# Altium schematic symbol library BASE OXIMETRO.SCHLIB: 30 symbols
Pins are listed as number, name and electrical type; pins without a type are passive.

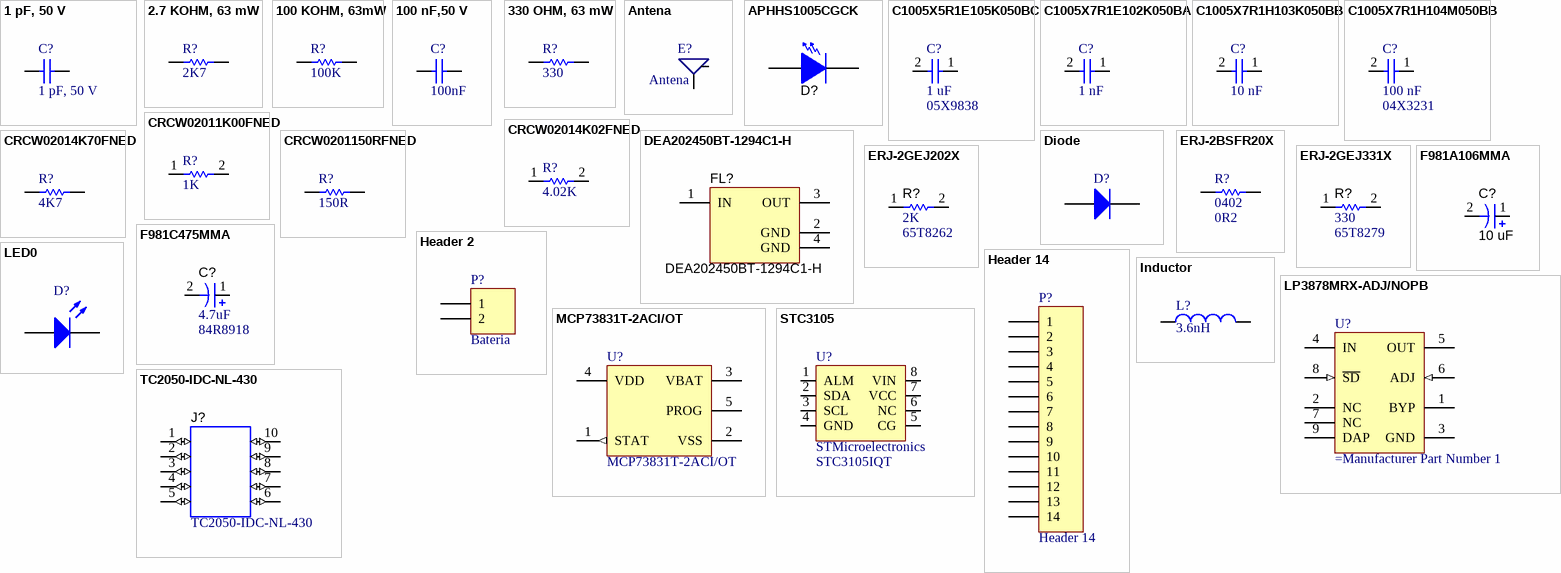
[diagram p0: symbols 1 pF, 50 V to TC2050-IDC-NL-430]

## 1 pF, 50 V
designator C?
TDK - C1005C0G1H010B050BA - CERAMIC CAPACITOR 1PF 50V, C0G/NP0, 0.1pF, 0402; Product Range: C Series; Capacitance: 1; Capacitance Tolerance: 0.1; Voltage Rating: 50; Ceramic Capacitor Case: 0402 [1005 Metric]; Supplier 1: Newark; Manufacturer 1: TDK; Manufacturer Part Number: C1005C0G1H010B050BA; RoHS: YES; Stock 1: 8365; Pricing 1: 1=0.131, 10=0.034, 100=0.016, 250=0.012, 500=0.011, 1000=0.008, 5000=0.007 (USD); Dielectric Characteristic: C0G / NP0; MSL: -; ComponentLink1URL: http://www.farnell.com/datasheets/1571323.pdf; ComponentLink1Description: http://www.farnell.com/datasheets/1571323.pdf; Supplier Part Number 1: 90R7555
footprint C0402
pins: 1, 2

## 2.7 KOHM, 63 mW
designator R?, comment 2K7
VISHAY DALE - CRCW04022K70FKED - THICK FILM RESISTOR, 2.7KOHM, 63mW, 1%; Supplier 1: Newark; Manufacturer 1: VISHAY DALE; Manufacturer Part Number: CRCW04022K70FKED; RoHS: YES; Stock 1: 1714; Pricing 1: 1=0.005, 10=0.005, 100=0.005, 1000=0.005 (USD); ComponentLink1URL: http://www.vishay.com/docs/31543/packsmre.pdf; ComponentLink1Description: http://www.vishay.com/docs/31543/packsmre.pdf; ComponentLink2URL: http://www.farnell.com/cad/1551525.zip; ComponentLink2Description: http://www.farnell.com/cad/1551525.zip; ComponentLink3URL: http://www.farnell.com/datasheets/1824995.pdf; ComponentLink3Description: http://www.farnell.com/datasheets/1824995.pdf; Supplier Part Number 1: 72M6760
footprint R-0402
pins: 1, 2

## 100 KOHM, 63mW
designator R?, comment 100K
VISHAY DALE - CRCW0402100KFKED - THICK FILM RESISTOR, 100KOHM, 63mW, 1%; Supplier 1: Newark; Manufacturer 1: VISHAY DALE; Manufacturer Part Number: CRCW0402100KFKED; RoHS: YESX; Stock 1: 8471; Pricing 1: 1=0.093, 10=0.02, 100=0.017, 1000=0.015 (USD); ComponentLink1URL: http://www.farnell.com/datasheets/1914725.pdf; ComponentLink1Description: http://www.farnell.com/datasheets/1914725.pdf; Supplier Part Number 1: 52K6607
footprint R-0402
pins: 1, 2

## 100 nF,50 V
designator C?  value 100nF  (hidden comment: 100 nF,50 V)
TDK - C1005X7R1H104K050BB - CERAMIC CAPACITOR, 0.1UF, 50V, X7R, 0402, FULL REEL; Product Range: C Series; Capacitance: 0.1 F; Capacitance Tolerance: 10%; Dielectric Characteristic: X7; Voltage Rating: 50; Ceramic Capacitor Case: 0402 [1005 Metric]; Supplier 1: Newark; Manufacturer: TDK; Manufacturer Part Number: C1005X7R1H104K050BB; RoHS: YES; Stock 1: 210000; Pricing 1: 10000=0.026, 20000=0.024, 30000=0.021, 50000=0.017 (USD); MSL: -; ComponentLink1URL: http://www.farnell.com/datasheets/1796654.pdf; ComponentLink1Description: http://www.farnell.com/datasheets/1796654.pdf; Supplier Part Number 1: 72W1753
footprint C-0402
pins: 1, 2

## 330 OHM, 63 mW
designator R?, comment 330
VISHAY DALE - CRCW0402330RFKED - THICK FILM RESISTOR, 330 OHM, 63mW, 1%; Product Range: AEC-Q200 CRCW Series; Power Rating: 63; Voltage Rating: 50; Resistor Case Style: 0402 [1005 Metric]; Supplier 1: Newark; Manufacturer 1: VISHAY DALE; Manufacturer Part Number: CRCW0402330RFKED; RoHS: YESX; Stock 1: 3159; Pricing 1: 1=0.005, 10=0.005, 100=0.005, 1000=0.005 (USD); Resistance: 330; Resistance Tolerance: 1%; Packaging: Cut Tape; ComponentLink1URL: http://www.vishay.com/docs/31543/packsmre.pdf; ComponentLink1Description: http://www.vishay.com/docs/31543/packsmre.pdf; ComponentLink2URL: http://www.farnell.com/cad/1551556.zip; ComponentLink2Description: http://www.farnell.com/cad/1551556.zip; ComponentLink3URL: http://www.farnell.com/datasheets/1824995.pdf; ComponentLink3Description: http://www.farnell.com/datasheets/1824995.pdf; Supplier Part Number 1: 52K6981
footprint R-0402
pins: 1, 2

## Antena
designator E?
footprint UFL
pins: 0 GND, 1

## APHHS1005CGCK
designator D?, comment 2290341  (value not drawn)
KINGBRIGHT - KPHHS-1005MGCK - LED, 0402, GREEN; Luminous Intensity: 60; Viewing Angle: 120°; Forward Current If: 20; Forward Voltage: 2.1; LED Mounting: SMD; Lens Shape: Rectangular; Wavelength Typ: 574; SVHC: No SVHC (16-Dec-2013; Supplier 1: Farnell; Supplier Part Number 1: 2290341; Manufacturer 1: KINGBRIGHT; Manufacturer Part Number 1: KPHHS-1005MGCK; RoHS 1: YES; Description 1: KINGBRIGHT - KPHHS-1005MGCK - LED, 0402, GREEN; Stock 1: 2970; Pricing 1: 1=0.173, 10=0.162, 50=0.151, 100=0.14, 250=0.13, 500=0.12, 500=0.108, 3000=0.0859 (GBP); Bulb Size: -; LED Colour: Green; Packaging: Each; MSL: MSL 3 - 168 hours; ComponentLink1URL: http://www.farnell.com/datasheets/1683503.pdf; ComponentLink1Description: http://www.farnell.com/datasheets/1683503.pdf
footprint LED-0402 - B
pins: 1 K, 2 A

## C1005X5R1E105K050BC
designator C?, comment 1 uF  Supplier Part Number 1: 05X9838
TDK - C1005X5R1E105K050BC - CAP, MLCC, X5R, 1UF, 25V, 0402; Value: 1 uF; Supplier 1: Newark; ComponentLink1URL: http://www.farnell.com/datasheets/1796654.pdf; ComponentLink1Description: http://www.farnell.com/datasheets/1796654.pdf; Supplier 2: Mouser; Supplier Part Number 2: 810-C1005X5R1E105K
footprint CR-0402
pins: 1, 2

## C1005X7R1E102K050BA
designator C?, comment 1 nF
TDK - C1005X7R1E102K050BA - CAPACITOR CERAMIC 1000PF, 25V, X7R, 10%, 0402; Value: 1 nF; ComponentLink1URL: http://www.farnell.com/datasheets/1571323.pdf; ComponentLink1Description: http://www.farnell.com/datasheets/1571323.pdf; ComponentLink2URL: http://www.farnell.com/datasheets/1718611.pdf; ComponentLink2Description: http://www.farnell.com/datasheets/1718611.pdf; Supplier 1: Newark; Supplier Part Number 1: 90R7603; Supplier 2: Mouser; Supplier Part Number 2: 810-C1005X7R1E102K
footprint CR-0402
pins: 1, 2

## C1005X7R1H103K050BB
designator C?, comment 10 nF
TDK - C1005X7R1H103K050BB - CAP CERAMIC, 0.01UF, 50V, X7R, 0402; Product Range: TDK - C Series; Capacitance: 0.01; Capacitance Tolerance: ± 10%; Dielectric Characteristic: X7; Voltage Rating: 50; Capacitor Case Style: 0402 ^1005 Metric]; Value: 10 nF; Packaging: Cut Tape; MSL: -; ComponentLink1URL: http://product.tdk.com/capacitor/mlcc/en/documents/mlcc_commercial_general_en.pdf; ComponentLink1Description: http://product.tdk.com/capacitor/mlcc/en/documents/mlcc_commercial_general_en.pdf; Supplier 1: Newark; Supplier Part Number 1: 04X3229; Supplier 2: Mouser; Supplier Part Number 2: 810-C1005X7R1H103K
footprint CR-0402
pins: 1, 2

## C1005X7R1H104M050BB
designator C?, comment 100 nF  Supplier Part Number 1: 04X3231
TDK - C1005X7R1H104M050BB - CAP CERAMIC, 0.1UF, 50V, X7R, 0402; Value: 100 nF; Supplier 1: Newark; ComponentLink1URL: http://product.tdk.com/capacitor/mlcc/en/documents/mlcc_commercial_general_en.pdf; ComponentLink1Description: http://product.tdk.com/capacitor/mlcc/en/documents/mlcc_commercial_general_en.pdf; Supplier 2: Mouser; Supplier Part Number 2: 810-C1005X7R1H104M
footprint CR-0402
pins: 1, 2

## CRCW02011K00FNED
designator R?, comment 1K
VISHAY DALE - CRCW02011K00FNED - RESISTOR, THICK FILM CHIP, 1KOHM 50mW, 1%, FULL REEL; Value: 1K; ComponentLink1URL: http://www.vishay.com/docs/20035/dcrcwe3.pdf; ComponentLink1Description: http://www.vishay.com/docs/20035/dcrcwe3.pdf; Supplier 1: Newark; Supplier Part Number 1: 52K6545; Supplier 2: Mouser; Supplier Part Number 2: 71-CRCW02011K00FNED
footprint CR-0402
pins: 1, 2

## CRCW02014K02FNED
designator R?, comment 4.02K
VISHAY DALE - CRCW02014K02FNED - RESISTOR, THICK FILM, 4.02 KOHM, 50 mW, 1%, FULL REEL; Product Range: VISHAY - CRCW Series; Resistance: 4.02; Power Rating: 50; Resistor Case Style: 0201 ^0603 Metric]; Value: 4.02K; Supplier 1: Farnell; Stock 1: 9995; Pricing 1: 10000=0.007, 20000=0.007, 30000=0.007, 50000=0.006 (GBP); Resistance Tolerance: ± 1%; Resistor Element Type: Thick Film; ComponentLink1URL: http://www.farnell.com/datasheets/1700795.pdf; ComponentLink1Description: http://www.farnell.com/datasheets/1700795.pdf; Supplier Part Number 1: 2322928; Manufacturer 1: VISHAY DALE; Manufacturer Part Number 1: CRCW02014K02FNED; RoHS 1: YES; Description 1: VISHAY DALE - CRCW02014K02FNED - RESISTOR, THICK FILM, 4.02 KOHM, 50 mW, 1%, FULL REEL
footprint CR-0402
pins: 1, 2

## CRCW02014K70FNED
designator R?, comment 4K7
VISHAY DALE - CRCW02014K70FNED - THICK FILM RESISTOR, 4.7 KOHM, 50 mW, 1%, FULL REEL; Product Range: AEC-Q200 CRCW Series; Resistance: 4.7; Power Rating: 50; Resistor Case Style: 0201 [0603 Metric]; Resistance Tolerance: 1%; Resistor Element Type: Thick Film; ComponentLink1URL: http://www.farnell.com/datasheets/1719906.pdf; ComponentLink1Description: http://www.farnell.com/datasheets/1719906.pdf; Supplier 1: Newark; Supplier Part Number 1: 52K7045; Value: 4K7
footprint CR-0402
pins: 1, 2

## CRCW0201150RFNED
designator R?, comment 150R
VISHAY DALE - CRCW0201150RFNED - THICK FILM RESISTOR, 150 OHM, 50 mW, 1%, FULL REEL; Product Range: AEC-Q200 CRCW Series; Resistance: 150; Power Rating: 50; Resistor Case Style: 0201 [0603 Metric]; Resistance Tolerance: 1%; Resistor Element Type: Thick Film; MSL: -; ComponentLink1URL: http://www.farnell.com/datasheets/1719906.pdf; ComponentLink1Description: http://www.farnell.com/datasheets/1719906.pdf; Supplier 1: Newark; Supplier Part Number 1: 52K6721; Value: 150R
footprint CR-0402
pins: 1, 2

## DEA202450BT-1294C1-H
designator FL?
Multilayer Chip Band Pass Filter For 2.4GHz W-LAN/Bluetooth, SMD; Manufacturer: TDK; SymbolCreator: Altium; Value: 1.02 dB; SymbolVersion: 2015-01-04; PartNumber: DEA202450BT-1294C1-H; CompType: Filter; MountType: SMT; ComponentLink1Description: Datasheet Link; ComponentLink1URL: http://product.tdk.com/en/catalog/datasheets/rf_bpf_dea202450bt-1294c1-h_en.pdf; RoHS: Y; PackageReference: 2x1.25mm; Publisher: Texas Instruments; LatestRevisionDate: 2015-02-12; Supplier 1: Digi-Key; Supplier Part Number 1: 445-172335-1-ND; Supplier 2: Mouser; Supplier Part Number 2: 810-DEA202450BT1294C
footprint TDK_DEA202450BT-1294C1-H
pins: 1 IN, 2 GND (power), 3 OUT, 4 GND (power)

## Diode
designator D?, comment 58K2394  (value not drawn)
Default Diode; Published: 8-Jun-2000; LatestRevisionDate: 17-Jul-2002; LatestRevisionNote: Re-released for DXP Platform.; PackageVersion: Sep-1996; PackageReference: SMC; Publisher: Altium Limited; PackageDescription: DO-214-AB/SMC; 2 C-Bend Leads; Body 7.9 x 5.9 mm, inc. leads (LxW); Code_JEDEC: DO-214-AB; Supplier 1: Newark; Supplier Part Number 1: 58K2394; Supplier 2: Mouser; Supplier Part Number 2: 512-S2J
footprint DO-214AA d
pins: 1 A, 2 K

## ERJ-2BSFR20X
designator R?, comment 0402  value 0R2
PANASONIC ELECTRONIC COMPONENTS - ERJ-2BSFR20X - RESISTOR, 0.2OHM, 166mW, 1%, SMD; Supplier 1: Newark; Stock 1: 1838; Pricing 1: 1=0.802, 50=0.332, 100=0.275, 250=0.218, 500=0.185, 1000=0.138, 2500=0.103 (USD); ComponentLink1URL: http://www.farnell.com/cad/1697901.zip; ComponentLink1Description: http://www.farnell.com/cad/1697901.zip; ComponentLink2URL: http://www.farnell.com/datasheets/1790602.pdf; ComponentLink2Description: http://www.farnell.com/datasheets/1790602.pdf; Supplier Part Number 1: 53W4138; Manufacturer 1: PANASONIC ELECTRONIC COMPONENTS; Manufacturer Part Number 1: ERJ-2BSFR20X; RoHS 1: YES; Description 1: PANASONIC ELECTRONIC COMPONENTS - ERJ-2BSFR20X - RESISTOR, 0.2OHM, 166mW, 1%, SMD; Supplier 2: Mouser; Supplier Part Number 2: 667-ERJ-2BSFR20X
footprint R-0402
pins: 1, 2

## ERJ-2GEJ202X
designator R?, comment Supplier Part Number 1: 65T8262  (hidden comment: 2K)
RESISTOR, THICK FILM, 2K, 5%, 0.1W, SMT0402; PART NUMBER: ERJ-2GEJ202X; PARTNUMBER: PANASONIC; POPULATE: Y; CONSIGNED: N; Supplier 1: Newark; Supplier 2: Mouser; Supplier Part Number 2: 667-ERJ-2GEJ202X; VALUE: 2K
footprint CR-0402
pins: 1, 2

## ERJ-2GEJ331X
designator R?, comment Supplier Part Number 1: 65T8279  (hidden comment: 330)
RESISTOR, THICK FILM, 330, 5%, 0.1W, SMT0402; PART NUMBER: ERJ-2GEJ331X; MANUFACTURER: PANASONIC; POPULATE: Y; CONSIGNED: N; Supplier 1: Newark; Supplier 2: Mouser; Supplier Part Number 2: 667-ERJ-2GEJ331X; VALUE: 330
footprint R-0402
pins: 1, 2

## F981A106MMA
designator C?, comment 10 uF
NICHICON - F981A106MMA - CAPACITOR TANT, 10UF, 10V 20%; Product Range: NICHICON - F98 Series; Capacitance: 10; Capacitor Case Style: 0603 ^1608 Metric]; ESR: 7.5; Value: 10 uF; Capacitance Tolerance: ± 20%; Voltage Rating: 10; Operating Temperature Max: 125; Series: F98; ComponentLink1URL: http://www.nichicon.co.jp/english/products/pdfs/e-f98.pdf; ComponentLink1Description: http://www.nichicon.co.jp/english/products/pdfs/e-f98.pdf; Supplier 1: Newark; Supplier Part Number 1: 70R1053; Supplier 2: Mouser; Supplier Part Number 2: 647-F981A106MMA
footprint C-0603
pins: 1 +, 2 -

## F981C475MMA
designator C?, comment Supplier Part Number 1: 84R8918  (hidden comment: 4.7uF)
CAP, TANTALUM, 4.7UF, 20%, 16V, 20 OHM, SMT0603; PART NUMBER: F980J475MUA; MANUFACTURER: NICHICON; POPULATE: Y; CONSIGNED: N; Supplier 1: Newark; Supplier 2: Mouser; Supplier Part Number 2: 647-F981C475MMA; VALUE: 4.7uF
footprint C-0603
pins: 1 +, 2 -

## Header 2
designator P?, comment Bateria
Header, 2-Pin; LatestRevisionDate: 17-Jul-2002; LatestRevisionNote: Re-released for DXP Platform.; Publisher: Altium Limited
footprint HDR1X2
pins: 1, 2

## Header 14
designator P?
Header, 14-Pin; LatestRevisionDate: 17-Jul-2002; LatestRevisionNote: Re-released for DXP Platform.; Publisher: Altium Limited
footprint Con 503480-1400
pins: 1, 2, 3, 4, 5, 6, 7, 8, 9, 10, 11, 12, 13, 14

## Inductor
designator L?  value 3.6nH  (hidden comment: Inductor)
Code_IEC: 1005; Published: 8-Jun-2000; LatestRevisionDate: 29-May-2009; LatestRevisionNote: IPC-7351 Footprint Added.; PackageReference: 0402-A; Publisher: Altium Limited; PackageDescription: Chip Inductor; Code_JEITA: 0402
footprint R-0402
pins: 1, 2

## LED0
designator D?  (value not drawn)
LED Blue; Published: 8-Jun-2000; LatestRevisionDate: 08-Jul-2005; LatestRevisionNote: Mech Layer 1 removed.; PackageReference: LED-0; Publisher: Altium Limited; PackageDescription: LED; 2 Leads; Supplier 1: Newark; Supplier Part Number 1: 75R0580; Supplier 2: Mouser; Supplier Part Number 2: 645-598-8091-107F
footprint CR-0402
pins: 1 A, 2 K

## LP3878MRX-ADJ/NOPB
designator U?
TEXAS INSTRUMENTS - LP3878MRX-ADJ/NOPB - IC, LDO REGULATOR, 800mA, 1-5.5V, FULL REEL; Input Voltage Min: 2.5; Input Voltage Max: 16; Output Voltage Min: 1; Output Voltage Max: 5.5; Output Current: 800; Dropout Voltage Vdo: 475; No. of Pins: 8; Packaging: Tape & Reel; ComponentLink1URL: http://cache.national.com/ds/LP/LP3878-ADJ.pdf; ComponentLink1Description: http://cache.national.com/ds/LP/LP3878-ADJ.pdf; Supplier 1: Newark; Supplier Part Number 1: 65K6513; Supplier 2: Mouser; Supplier Part Number 2: 926-LP3878MRXADJNOPB
footprint SO8 DDA
pins: 1 BYP, 2 NC, 3 GND (power), 4 IN (power), 5 OUT (power), 6 ADJ (in), 7 NC, 8 ~{SD} (in), 9 DAP (power)

## MCP73831T-2ACI/OT
designator U?
Miniature Single-Cell, Fully Integrated Li-Ion, Li-Polymer Charge Management Controller, 4.2V, 5-Pin SOT-23, Industrial Temperature, Tape and Reel; Published: 29-Jan-2009; LatestRevisionDate: 27-Nov-2009; LatestRevisionNote: Updated to datasheet revision E, Sep-2008; DatasheetVersion: revE, Sep-2008; PackageVersion: revBB, Aug-2009; PackageReference: SOT-23-OT5; Publisher: Altium Limited; PackageDescription: 5-Lead Plastic Small Outline Transistor (OT) [SOT-23]; Supplier 1: Digi-Key; Supplier Part Number 1: MCP73831T-2ACI/OTCT-ND; Supplier 2: Farnell; Supplier Part Number 2: 1332158; Code_IPC: SOT23-5; ComponentLink1Description: Datasheet; ComponentLink1URL: http://ww1.microchip.com/downloads/en/DeviceDoc/21984e.pdf; ComponentLink2Description: Packaging Specification; ComponentLink2URL: http://www.microchip.com/stellent/groups/techpub_sg/documents/packagingspec/en012702.pdf; ComponentLink3Description: Microchip.com Home; ComponentLink3URL: http://www.microchip.com/; Supplier 3: Mouser; Supplier Part Number 3: 579-MCP73831T-2ACIOT
footprint SOT-23-5_3d
pins: 1 STAT (out), 2 VSS (power), 3 VBAT (power), 4 VDD (power), 5 PROG

## STC3105
designator U?, comment STMicroelectronics  Manufacturer Part Number 1: STC3105IQT
IC BATTERY MON GAS GAUGE 8-TDFN; Function: Fuel, Gas Gauge/Monitor; Voltage - Supply: 2.7 V ~ 5.5 V; Value: STC3105IQT; Supplier 1: Digi-Key; Category: Integrated Circuits (ICs); Stock 1: 49; Pricing 1: 1=1.9, 10=1.714, 25=1.5352, 100=1.3804, 250=1.22572, 500=1.071, 1000=0.88655 (USD); Packaging: Cut Tape (CT); Battery Chemistry: -; Operating Temperature: -40°C ~ 85°C; Mounting Type: Surface Mount; Package / Case: 8-WDFN; Supplier Device Package: 8-TDFN (3x2); ComponentLink1URL: http://www.st.com/web/en/resource/technical/document/datasheet/DM00037883.pdf; ComponentLink1Description: http://www.st.com/web/en/resource/technical/document/datasheet/DM00037883.pdf; Supplier Part Number 1: 497-12092-1-ND; Manufacturer 1: STMicroelectronics; RoHS 1: RoHS Compliant; Description 1: IC BATTERY MON GAS GAUGE 8-TDFN; Supplier 2: Mouser; Supplier Part Number 2: 511-STC3105IQT
footprint TDFN8
pins: 1 ALM, 2 SDA, 3 SCL, 4 GND, 5 CG, 6 NC, 7 VCC, 8 VIN

## TC2050-IDC-NL-430
designator J?  value TC2050-IDC-NL-430  (no BOM)
CONNECTOR, PLUG OF NAILS CABLE, DUAL ROW, VERTICAL, 10-PIN; MANUFACTURER: TAG CONNECT; POPULATE: N; PART NUMBER: TC2050-IDC-NL-430; CONSIGNED: N
footprint TC2050-IDC-NL
pins: 1 (io), 2 (io), 3 (io), 4 (io), 5 (io), 6 (io), 7 (io), 8 (io), 9 (io), 10 (io)